# EAGLE library part MCP2561 (library mcp2561)
CAN transceiver
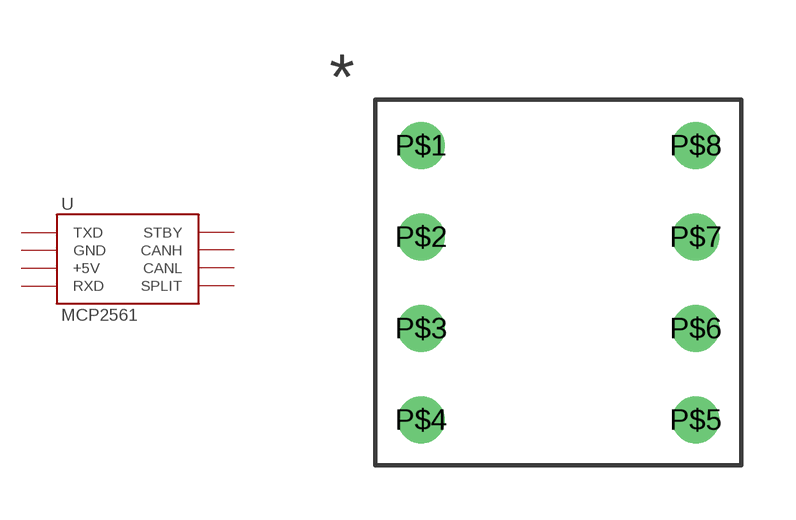
[diagram p0: symbol with the pads of DIP8; footprint DIP8]

Designator prefix U

## MCP2561  [DIP8]
P$1  TXD
P$2  GND
P$3  +5V
P$4  RXD
P$5  SPLIT
P$6  CANL
P$7  CANH
P$8  STBY

## Footprint DIP8 (pad centres in mm)
drill 0.8: P$1 -3.81,6.35; P$2 -3.81,3.81; P$3 -3.81,1.27; P$4 -3.81,-1.27; P$5 3.81,-1.27; P$6 3.81,1.27; P$7 3.81,3.81; P$8 3.81,6.35